# Altium schematic symbol library 768290102.SchLib: 1 symbol
Pins are listed as number, name and electrical type; pins without a type are passive.

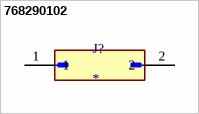
[diagram p0: symbol 768290102]

## 768290102
designator J?
MP: 768290102; Price: None; Value: *; Package: None; Availability: Unavailable
footprint MOLEX_768290102
pins: 1, 2